# EAGLE library part R7FA0E1073CSC#CA0 (library R7FA0E1073CSC#CA0)
The RA0E1 group is a basic, simple MCU in the entry line of the RA0 series, offering excellent cost effectiveness and ultra-low power consumption. It delivers up to 32MHz of CPU performance using an Arm Cortex-M23 core with up to 64KB of embedded flash memory and a wide supply voltage range from 1.6V to 5.5V. The RA0 series is ideal for cost-sensitive applications such as low power and lower cost for consumer electronics, system control for small appliances, industrial system control and building automation Source: Datasheet <https://www.renesas.com/us/en/products/microcontrollers-microprocessors/ra-cortex-m-mcus/ra0e1-32mhz-arm-cortex-m23-entry-level-ultra-low-power-general-purpose-microcontroller>
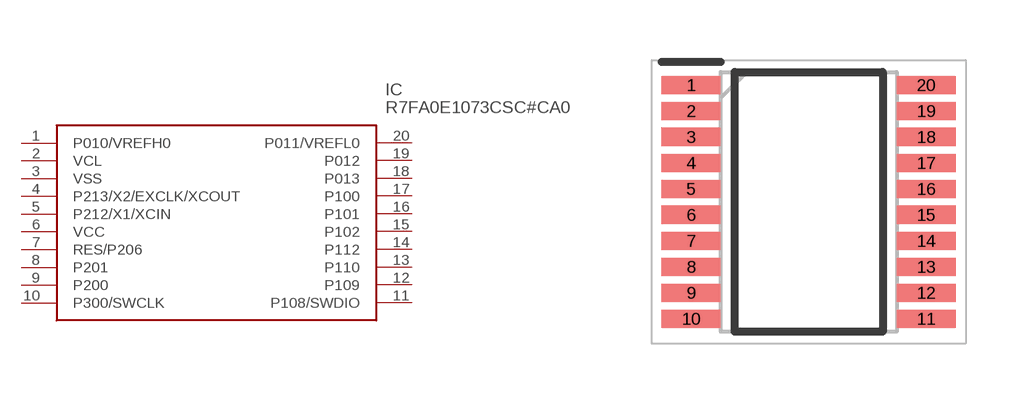
[diagram p0: symbol with the pads of SOP65P640X145-20N; footprint SOP65P640X145-20N]

Designator prefix IC

## R7FA0E1073CSC#CA0 (Description: The RA0E1 group is a basic, simple MCU in the entry line of the RA0 series, offering excellent cost effectiveness and ultra-low power consumption. It delivers up to 32MHz of CPU performance using an Arm Cortex-M23 core with up to 64KB of embedded flash memory and a wide supply voltage range from 1.6V to 5.5V. The RA0 series is ideal for cost-sensitive applications such as low power and lower cost for consumer electronics, system control for small appliances, industrial system control and building automation; Height: 1.45mm; Manufacturer_Name: Renesas Electronics; Manufacturer_Part_Number: R7FA0E1073CSC#CA0)  [SOP65P640X145-20N]
1  P010/VREFH0
2  VCL
3  VSS
4  P213/X2/EXCLK/XCOUT
5  P212/X1/XCIN
6  VCC
7  RES/P206
8  P201
9  P200
10  P300/SWCLK
11  P108/SWDIO
12  P109
13  P110
14  P112
15  P102
16  P101
17  P100
18  P013
19  P012
20  P011/VREFL0

## Footprint SOP65P640X145-20N (pad centres in mm)
R7FA0E1073CSC#CA0
smd 1.475 x 0.45: 1 -2.938,2.925; 2 -2.938,2.275; 3 -2.938,1.625; 4 -2.938,0.975; 5 -2.938,0.325; 6 -2.938,-0.325; 7 -2.938,-0.975; 8 -2.938,-1.625; 9 -2.938,-2.275; 10 -2.938,-2.925; 11 2.938,-2.925; 12 2.938,-2.275; 13 2.938,-1.625; 14 2.938,-0.975; 15 2.938,-0.325; 16 2.938,0.325; 17 2.938,0.975; 18 2.938,1.625; 19 2.938,2.275; 20 2.938,2.925